# Altium schematic symbol library WE-VD.SchLib: 79 symbols (part 1 of 2)
Pins are listed as number, name and electrical type; pins without a type are passive.

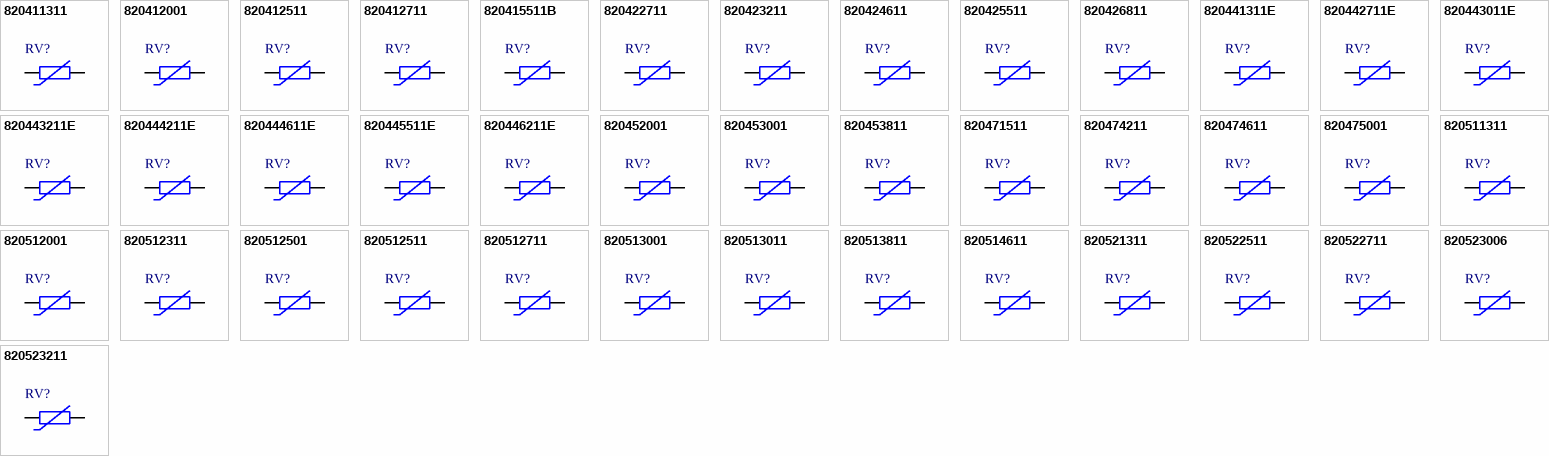
[diagram p0: symbols 820411311 to 820523211]

## 820411311
designator RV?, comment 130Vrms, 170Vdc  (value not drawn)
WE-VD Disk Varistor, THT, D12.5mm x H15.5mm, 130Vrms, 170Vdc, 3500A, 35J; Manufacturer Part Number: 820411311; Manufacturer: Wurth Elektronik; Operating Voltage (AC): 130V; Operating Voltage (DC): 170V; Power Dissipation: 0.4W; (Reverse) Breakdown Voltage: 200V; VDE Approval: Yes; Category: Surge Protection; Match Code: WE-VD; ComponentLink1Description: Website Link; ComponentLink1URL: https://www.we-online.com/redexpert/article/820411311?ad; ComponentLink2Description: Datasheet Link; ComponentLink2URL: https://www.we-online.com/redexpert/spec/820411311?ad; Mount: Through Hole; Operating Temperature Min: -40degC; Operating Temperature Max: 105degC; Packaging: Tape and Reel; Width: 4.6mm; Height: 15.5mm; Diameter: 12.5mm; Energy Absorption: 35J; (Reverse) Peak Pulse Current: 3500A
footprint D12.5W4.6H15.5P0.8_ShortPin
footprint D12.5W4.6H15.5P0.8
pins: 1, 2

## 820412001
designator RV?, comment 20Vrms, 26Vdc  (value not drawn)
WE-VD Disk Varistor, THT, D12.5mm x H15.5mm, 20Vrms, 26Vdc, 1000A, 4.8J; Manufacturer Part Number: 820412001; Manufacturer: Wurth Elektronik; Operating Voltage (AC): 20V; Operating Voltage (DC): 26V; Power Dissipation: 0.05W; (Reverse) Breakdown Voltage: 33V; VDE Approval: Yes; Category: Surge Protection; Match Code: WE-VD; ComponentLink1Description: Website Link; ComponentLink1URL: https://www.we-online.com/redexpert/article/820412001?ad; ComponentLink2Description: Datasheet Link; ComponentLink2URL: https://www.we-online.com/redexpert/spec/820412001?ad; Mount: Through Hole; Operating Temperature Min: -40degC; Operating Temperature Max: 105degC; Packaging: Tape and Reel; Width: 5.1mm; Height: 15.5mm; Diameter: 12.5mm; Energy Absorption: 4.8J; (Reverse) Peak Pulse Current: 1000A
footprint D12.5W5.1H15.5P0.8_ShortPin
footprint D12.5W5.1H15.5P0.8
pins: 1, 2

## 820412511
designator RV?, comment 250Vrms, 320Vdc  (value not drawn)
WE-VD Disk Varistor, THT, D12.5mm x H16mm, 250Vrms, 320Vdc, 3500A, 70J; Manufacturer Part Number: 820412511; Manufacturer: Wurth Elektronik; Operating Voltage (AC): 250V; Operating Voltage (DC): 320V; Power Dissipation: 0.4W; (Reverse) Breakdown Voltage: 390V; VDE Approval: Yes; Category: Surge Protection; Match Code: WE-VD; ComponentLink1Description: Website Link; ComponentLink1URL: https://www.we-online.com/redexpert/article/820412511?ad; ComponentLink2Description: Datasheet Link; ComponentLink2URL: https://www.we-online.com/redexpert/spec/820412511?ad; Mount: Through Hole; Operating Temperature Min: -40degC; Operating Temperature Max: 105degC; Packaging: Tape and Reel; Width: 5.7mm; Height: 16mm; Diameter: 12.5mm; Energy Absorption: 70J; (Reverse) Peak Pulse Current: 3500A
footprint D12.5W5.7H16P1.1_ShortPin
footprint D12.5W5.7H16P1.1
pins: 1, 2

## 820412711
designator RV?, comment 275Vrms, 350Vdc  (value not drawn)
WE-VD Disk Varistor, THT, D12.5mm x H16mm, 275Vrms, 350Vdc, 3500A, 80J; Manufacturer Part Number: 820412711; Manufacturer: Wurth Elektronik; Operating Voltage (AC): 275V; Operating Voltage (DC): 350V; Power Dissipation: 0.4W; (Reverse) Breakdown Voltage: 430V; VDE Approval: Yes; Category: Surge Protection; Match Code: WE-VD; ComponentLink1Description: Website Link; ComponentLink1URL: https://www.we-online.com/redexpert/article/820412711?ad; ComponentLink2Description: Datasheet Link; ComponentLink2URL: https://www.we-online.com/redexpert/spec/820412711?ad; Mount: Through Hole; Operating Temperature Min: -40degC; Operating Temperature Max: 105degC; Packaging: Tape and Reel; Width: 6.5mm; Height: 16mm; Diameter: 12.5mm; Energy Absorption: 80J; (Reverse) Peak Pulse Current: 3500A
footprint D12.5W6.5H16P1.3_ShortPin
footprint D12.5W6.5H16P1.3
pins: 1, 2

## 820415511B
designator RV?, comment 550Vrms, 745Vdc  (value not drawn)
WE-VD Disk Varistor, THT, D12.5mm x H16.5mm, 550Vrms, 745Vdc, 3500A, 127J; Manufacturer Part Number: 820415511B; Manufacturer: Wurth Elektronik; Operating Voltage (AC): 550V; Operating Voltage (DC): 745V; Power Dissipation: 0.4W; (Reverse) Breakdown Voltage: 910V; VDE Approval: Yes; Category: Surge Protection; Match Code: WE-VD; ComponentLink1Description: Website Link; ComponentLink1URL: https://www.we-online.com/redexpert/article/820415511B?ad; ComponentLink2Description: Datasheet Link; ComponentLink2URL: https://www.we-online.com/redexpert/spec/820415511B?ad; Mount: Through Hole; Operating Temperature Min: -40degC; Operating Temperature Max: 105degC; Packaging: Tape and Reel; Width: 9.4mm; Height: 16.5mm; Diameter: 12.5mm; Energy Absorption: 127J; (Reverse) Peak Pulse Current: 3500A
footprint D12.5W9.4H16.5P3.6_ShortPin
footprint D12.5W9.4H16.5P3.6
pins: 1, 2

## 820422711
designator RV?, comment 275Vrms, 350Vdc  (value not drawn)
WE-VD Disk Varistor, THT, D23mm x H26.5mm, 275Vrms, 350Vdc, 10000A, 303J; Manufacturer Part Number: 820422711; Manufacturer: Wurth Elektronik; Operating Voltage (AC): 275V; Operating Voltage (DC): 350V; Power Dissipation: 1W; (Reverse) Breakdown Voltage: 430V; VDE Approval: Yes; Category: Surge Protection; Match Code: WE-VD; ComponentLink1Description: Website Link; ComponentLink1URL: https://www.we-online.com/redexpert/article/820422711?ad; ComponentLink2Description: Datasheet Link; ComponentLink2URL: https://www.we-online.com/redexpert/spec/820422711?ad; Mount: Through Hole; Operating Temperature Min: -40degC; Operating Temperature Max: 105degC; Packaging: Tape and Reel; Width: 7.2mm; Height: 26.5mm; Diameter: 23mm; Energy Absorption: 303J; (Reverse) Peak Pulse Current: 10000A
footprint D23W7.2H26.5P1.1_ShortPin
footprint D23W7.2H26.5P1.1
pins: 1, 2

## 820423211
designator RV?, comment 320Vrms, 418Vdc  (value not drawn)
WE-VD Disk Varistor, THT, D23mm x H27mm, 320Vrms, 418Vdc, 10000A, 382J; Manufacturer Part Number: 820423211; Manufacturer: Wurth Elektronik; Operating Voltage (AC): 320V; Operating Voltage (DC): 418V; Power Dissipation: 1W; (Reverse) Breakdown Voltage: 510V; VDE Approval: Yes; Category: Surge Protection; Match Code: WE-VD; ComponentLink1Description: Website Link; ComponentLink1URL: https://www.we-online.com/redexpert/article/820423211?ad; ComponentLink2Description: Datasheet Link; ComponentLink2URL: https://www.we-online.com/redexpert/spec/820423211?ad; Mount: Through Hole; Operating Temperature Min: -40degC; Operating Temperature Max: 105degC; Packaging: Tape and Reel; Width: 7.7mm; Height: 27mm; Diameter: 23mm; Energy Absorption: 382J; (Reverse) Peak Pulse Current: 10000A
footprint D23W7.7H27P1.5_ShortPin
footprint D23W7.7H27P1.5
pins: 1, 2

## 820424611
designator RV?, comment 460Vrms, 615Vdc  (value not drawn)
WE-VD Disk Varistor, THT, D23mm x H27mm, 460Vrms, 615Vdc, 10000A, 440J; Manufacturer Part Number: 820424611; Manufacturer: Wurth Elektronik; Operating Voltage (AC): 460V; Operating Voltage (DC): 615V; Power Dissipation: 1W; (Reverse) Breakdown Voltage: 750V; VDE Approval: Yes; Category: Surge Protection; Match Code: WE-VD; ComponentLink1Description: Website Link; ComponentLink1URL: https://www.we-online.com/redexpert/article/820424611?ad; ComponentLink2Description: Datasheet Link; ComponentLink2URL: https://www.we-online.com/redexpert/spec/820424611?ad; Mount: Through Hole; Operating Temperature Min: -40degC; Operating Temperature Max: 105degC; Packaging: Bag; Width: 9.1mm; Height: 27mm; Diameter: 23mm; Energy Absorption: 440J; (Reverse) Peak Pulse Current: 10000A
footprint D23W9.1H27P2.6_ShortPin
footprint D23W9.1H27P2.6
pins: 1, 2

## 820425511
designator RV?, comment 550Vrms, 745Vdc  (value not drawn)
WE-VD Disk Varistor, THT, D23mm x H27mm, 550Vrms, 745Vdc, 10000A, 510J; Manufacturer Part Number: 820425511; Manufacturer: Wurth Elektronik; Operating Voltage (AC): 550V; Operating Voltage (DC): 745V; Power Dissipation: 1W; (Reverse) Breakdown Voltage: 910V; VDE Approval: Yes; Category: Surge Protection; Match Code: WE-VD; ComponentLink1Description: Website Link; ComponentLink1URL: https://www.we-online.com/redexpert/article/820425511?ad; ComponentLink2Description: Datasheet Link; ComponentLink2URL: https://www.we-online.com/redexpert/spec/820425511?ad; Mount: Through Hole; Operating Temperature Min: -40degC; Operating Temperature Max: 105degC; Packaging: Tape and Reel; Width: 10.1mm; Height: 27mm; Diameter: 23mm; Energy Absorption: 510J; (Reverse) Peak Pulse Current: 10000A
footprint D23W10.1H27P3.4_ShortPin
footprint D23W10.1H27P3.4
pins: 1, 2

## 820426811
designator RV?, comment 680Vrms, 895Vdc  (value not drawn)
WE-VD Disk Varistor, THT, D23mm x H27mm, 680Vrms, 895Vdc, 10000A, 620J; Manufacturer Part Number: 820426811; Manufacturer: Wurth Elektronik; Operating Voltage (AC): 680V; Operating Voltage (DC): 895V; Power Dissipation: 1W; (Reverse) Breakdown Voltage: 1100V; VDE Approval: Yes; Category: Surge Protection; Match Code: WE-VD; ComponentLink1Description: Website Link; ComponentLink1URL: https://www.we-online.com/redexpert/article/820426811?ad; ComponentLink2Description: Datasheet Link; ComponentLink2URL: https://www.we-online.com/redexpert/spec/820426811?ad; Mount: Through Hole; Operating Temperature Min: -40degC; Operating Temperature Max: 105degC; Packaging: Tape and Reel; Width: 11.2mm; Height: 27mm; Diameter: 23mm; Energy Absorption: 620J; (Reverse) Peak Pulse Current: 10000A
footprint D23W11.2H27P4.3_ShortPin
footprint D23W11.2H27P4.3
pins: 1, 2

## 820441311E
designator RV?, comment 130Vrms, 170Vdc  (value not drawn)
WE-VD Disk Varistor, THT, D16.5mm x H19.5mm, 130Vrms, 170Vdc, 6000A, 70J; Manufacturer Part Number: 820441311E; Manufacturer: Wurth Elektronik; Operating Voltage (AC): 130V; Operating Voltage (DC): 170V; Power Dissipation: 0.6W; (Reverse) Breakdown Voltage: 200V; VDE Approval: Yes; Category: Surge Protection; Match Code: WE-VD; ComponentLink1Description: Website Link; ComponentLink1URL: https://www.we-online.com/redexpert/article/820441311E?ad; ComponentLink2Description: Datasheet Link; ComponentLink2URL: https://www.we-online.com/redexpert/spec/820441311E?ad; Mount: Through Hole; Operating Temperature Min: -40degC; Operating Temperature Max: 105degC; Packaging: Tape and Reel; Width: 4.8mm; Height: 19.5mm; Diameter: 16.5mm; Energy Absorption: 70J; (Reverse) Peak Pulse Current: 6000A
footprint D16.5W4.8H19.5P0.8_ShortPin
footprint D16.5W4.8H19.5P0.8
pins: 1, 2

## 820442711E
designator RV?, comment 275Vrms, 350Vdc  (value not drawn)
WE-VD Disk Varistor, THT, D16.5mm x H20mm, 275Vrms, 350Vdc, 6000A, 155J; Manufacturer Part Number: 820442711E; Manufacturer: Wurth Elektronik; Operating Voltage (AC): 275V; Operating Voltage (DC): 350V; Power Dissipation: 0.6W; (Reverse) Breakdown Voltage: 430V; VDE Approval: Yes; Category: Surge Protection; Match Code: WE-VD; ComponentLink1Description: Website Link; ComponentLink1URL: https://www.we-online.com/redexpert/article/820442711E?ad; ComponentLink2Description: Datasheet Link; ComponentLink2URL: https://www.we-online.com/redexpert/spec/820442711E?ad; Mount: Through Hole; Operating Temperature Min: -40degC; Operating Temperature Max: 105degC; Packaging: Tape and Reel; Width: 6.7mm; Height: 20mm; Diameter: 16.5mm; Energy Absorption: 155J; (Reverse) Peak Pulse Current: 6000A
footprint D16.5W6.7H20P1.3_ShortPin
footprint D16.5W6.7H20P1.3
pins: 1, 2

## 820443011E
designator RV?, comment 300Vrms, 385Vdc  (value not drawn)
WE-VD Disk Varistor, THT, D16.5mm x H20mm, 300Vrms, 385Vdc, 6000A, 175J; Manufacturer Part Number: 820443011E; Manufacturer: Wurth Elektronik; Operating Voltage (AC): 300V; Operating Voltage (DC): 385V; Power Dissipation: 0.6W; (Reverse) Breakdown Voltage: 470V; VDE Approval: Yes; Category: Surge Protection; Match Code: WE-VD; ComponentLink1Description: Website Link; ComponentLink1URL: https://www.we-online.com/redexpert/article/820443011E?ad; ComponentLink2Description: Datasheet Link; ComponentLink2URL: https://www.we-online.com/redexpert/spec/820443011E?ad; Mount: Through Hole; Operating Temperature Min: -40degC; Operating Temperature Max: 105degC; Packaging: Tape and Reel; Width: 7mm; Height: 20mm; Diameter: 16.5mm; Energy Absorption: 175J; (Reverse) Peak Pulse Current: 6000A
footprint D16.5W7H20P1.5_ShortPin
footprint D16.5W7H20P1.5
pins: 1, 2

## 820443211E
designator RV?, comment 320Vrms, 418Vdc  (value not drawn)
WE-VD Disk Varistor, THT, D16.5mm x H20.5mm, 320Vrms, 418Vdc, 6000A, 190J; Manufacturer Part Number: 820443211E; Manufacturer: Wurth Elektronik; Operating Voltage (AC): 320V; Operating Voltage (DC): 418V; Power Dissipation: 0.6W; (Reverse) Breakdown Voltage: 510V; VDE Approval: Yes; Category: Surge Protection; Match Code: WE-VD; ComponentLink1Description: Website Link; ComponentLink1URL: https://www.we-online.com/redexpert/article/820443211E?ad; ComponentLink2Description: Datasheet Link; ComponentLink2URL: https://www.we-online.com/redexpert/spec/820443211E?ad; Mount: Through Hole; Operating Temperature Min: -40degC; Operating Temperature Max: 105degC; Packaging: Tape and Reel; Width: 7.2mm; Height: 20.5mm; Diameter: 16.5mm; Energy Absorption: 190J; (Reverse) Peak Pulse Current: 6000A
footprint D16.5W7.2H20.5P1.6_ShortPin
footprint D16.5W7.2H20.5P1.6
pins: 1, 2

## 820444211E
designator RV?, comment 420Vrms, 560Vdc  (value not drawn)
WE-VD Disk Varistor, THT, D16.5mm x H20.5mm, 420Vrms, 560Vdc, 6000A, 225J; Manufacturer Part Number: 820444211E; Manufacturer: Wurth Elektronik; Operating Voltage (AC): 420V; Operating Voltage (DC): 560V; Power Dissipation: 0.6W; (Reverse) Breakdown Voltage: 680V; VDE Approval: Yes; Category: Surge Protection; Match Code: WE-VD; ComponentLink1Description: Website Link; ComponentLink1URL: https://www.we-online.com/redexpert/article/820444211E?ad; ComponentLink2Description: Datasheet Link; ComponentLink2URL: https://www.we-online.com/redexpert/spec/820444211E?ad; Mount: Through Hole; Operating Temperature Min: -40degC; Operating Temperature Max: 105degC; Packaging: Tape and Reel; Width: 8.2mm; Height: 20.5mm; Diameter: 16.5mm; Energy Absorption: 225J; (Reverse) Peak Pulse Current: 6000A
footprint D16.5W8.2H20.5P2.5_ShortPin
footprint D16.5W8.2H20.5P2.5
pins: 1, 2

## 820444611E
designator RV?, comment 460Vrms, 615Vdc  (value not drawn)
WE-VD Disk Varistor, THT, D16.5mm x H20.5mm, 460Vrms, 615Vdc, 6000A, 230J; Manufacturer Part Number: 820444611E; Manufacturer: Wurth Elektronik; Operating Voltage (AC): 460V; Operating Voltage (DC): 615V; Power Dissipation: 0.6W; (Reverse) Breakdown Voltage: 750V; VDE Approval: Yes; Category: Surge Protection; Match Code: WE-VD; ComponentLink1Description: Website Link; ComponentLink1URL: https://www.we-online.com/redexpert/article/820444611E?ad; ComponentLink2Description: Datasheet Link; ComponentLink2URL: https://www.we-online.com/redexpert/spec/820444611E?ad; Mount: Through Hole; Operating Temperature Min: -40degC; Operating Temperature Max: 105degC; Packaging: Tape and Reel; Width: 8.6mm; Height: 20.5mm; Diameter: 16.5mm; Energy Absorption: 230J; (Reverse) Peak Pulse Current: 6000A
footprint D16.5W8.6H20.5P2.8_ShortPin
footprint D16.5W8.6H20.5P2.8
pins: 1, 2

## 820445511E
designator RV?, comment 550Vrms, 745Vdc  (value not drawn)
WE-VD Disk Varistor, THT, D16.5mm x H20.5mm, 550Vrms, 745Vdc, 6000A, 255J; Manufacturer Part Number: 820445511E; Manufacturer: Wurth Elektronik; Operating Voltage (AC): 550V; Operating Voltage (DC): 745V; Power Dissipation: 0.6W; (Reverse) Breakdown Voltage: 910V; VDE Approval: Yes; Category: Surge Protection; Match Code: WE-VD; ComponentLink1Description: Website Link; ComponentLink1URL: https://www.we-online.com/redexpert/article/820445511E?ad; ComponentLink2Description: Datasheet Link; ComponentLink2URL: https://www.we-online.com/redexpert/spec/820445511E?ad; Mount: Through Hole; Operating Temperature Min: -40degC; Operating Temperature Max: 105degC; Packaging: Tape and Reel; Width: 9.6mm; Height: 20.5mm; Diameter: 16.5mm; Energy Absorption: 255J; (Reverse) Peak Pulse Current: 6000A
footprint D16.5W9.6H20.5P3.6_ShortPin
footprint D16.5W9.6H20.5P3.6
pins: 1, 2

## 820446211E
designator RV?, comment 625Vrms, 825Vdc  (value not drawn)
WE-VD Disk Varistor, THT, D16.5mm x H20.5mm, 625Vrms, 825Vdc, 6000A, 283J; Manufacturer Part Number: 820446211E; Manufacturer: Wurth Elektronik; Operating Voltage (AC): 625V; Operating Voltage (DC): 825V; Power Dissipation: 0.6W; (Reverse) Breakdown Voltage: 1000V; VDE Approval: Yes; Category: Surge Protection; Match Code: WE-VD; ComponentLink1Description: Website Link; ComponentLink1URL: https://www.we-online.com/redexpert/article/820446211E?ad; ComponentLink2Description: Datasheet Link; ComponentLink2URL: https://www.we-online.com/redexpert/spec/820446211E?ad; Mount: Through Hole; Operating Temperature Min: -40degC; Operating Temperature Max: 105degC; Packaging: Tape and Reel; Width: 10.1mm; Height: 20.5mm; Diameter: 16.5mm; Energy Absorption: 283J; (Reverse) Peak Pulse Current: 6000A
footprint D16.5W10.1H20.5P4_ShortPin
footprint D16.5W10.1H20.5P4
pins: 1, 2

## 820452001
designator RV?, comment 20Vrms, 26Vdc  (value not drawn)
WE-VD Disk Varistor, THT, D7.5mm x H10.5mm, 20Vrms, 26Vdc, 250A, 1.3J; Manufacturer Part Number: 820452001; Manufacturer: Wurth Elektronik; Operating Voltage (AC): 20V; Operating Voltage (DC): 26V; Power Dissipation: 0.01W; (Reverse) Breakdown Voltage: 33V; VDE Approval: Yes; Category: Surge Protection; Match Code: WE-VD; ComponentLink1Description: Website Link; ComponentLink1URL: https://www.we-online.com/redexpert/article/820452001?ad; ComponentLink2Description: Datasheet Link; ComponentLink2URL: https://www.we-online.com/redexpert/spec/820452001?ad; Mount: Through Hole; Operating Temperature Min: -40degC; Operating Temperature Max: 105degC; Packaging: Tape and Reel; Width: 4.7mm; Height: 10.5mm; Diameter: 7.5mm; Energy Absorption: 1.3J; (Reverse) Peak Pulse Current: 250A
footprint D7.5W4.7H10.5P0.8_ShortPin
footprint D7.5W4.7H10.5P0.8
pins: 1, 2

## 820453001
designator RV?, comment 30Vrms, 38Vdc  (value not drawn)
WE-VD Disk Varistor, THT, D7.5mm x H10.5mm, 30Vrms, 38Vdc, 250A, 1.8J; Manufacturer Part Number: 820453001; Manufacturer: Wurth Elektronik; Operating Voltage (AC): 30V; Operating Voltage (DC): 38V; Power Dissipation: 0.01W; (Reverse) Breakdown Voltage: 47V; VDE Approval: Yes; Category: Surge Protection; Match Code: WE-VD; ComponentLink1Description: Website Link; ComponentLink1URL: https://www.we-online.com/redexpert/article/820453001?ad; ComponentLink2Description: Datasheet Link; ComponentLink2URL: https://www.we-online.com/redexpert/spec/820453001?ad; Mount: Through Hole; Operating Temperature Min: -40degC; Operating Temperature Max: 105degC; Packaging: Tape and Reel; Width: 5mm; Height: 10.5mm; Diameter: 7.5mm; Energy Absorption: 1.8J; (Reverse) Peak Pulse Current: 250A
footprint D7.5W5H10.5P0.8_ShortPin
footprint D7.5W5H10.5P0.8
pins: 1, 2

## 820453811
designator RV?, comment 385Vrms, 505Vdc  (value not drawn)
WE-VD Disk Varistor, THT, D7.5mm x H11.5mm, 385Vrms, 505Vdc, 800A, 27J; Manufacturer Part Number: 820453811; Manufacturer: Wurth Elektronik; Operating Voltage (AC): 385V; Operating Voltage (DC): 505V; Power Dissipation: 0.1W; (Reverse) Breakdown Voltage: 620V; VDE Approval: Yes; Category: Surge Protection; Match Code: WE-VD; ComponentLink1Description: Website Link; ComponentLink1URL: https://www.we-online.com/redexpert/article/820453811?ad; ComponentLink2Description: Datasheet Link; ComponentLink2URL: https://www.we-online.com/redexpert/spec/820453811?ad; Mount: Through Hole; Operating Temperature Min: -40degC; Operating Temperature Max: 105degC; Packaging: Tape and Reel; Width: 7.2mm; Height: 11.5mm; Diameter: 7.5mm; Energy Absorption: 27J; (Reverse) Peak Pulse Current: 800A
footprint D7.5W7.2H11.5P2.4_ShortPin
footprint D7.5W7.2H11.5P2.4
pins: 1, 2

## 820471511
designator RV?, comment 150Vrms, 200Vdc  (value not drawn)
WE-VD Disk Varistor, THT, D9mm x H12mm, 150Vrms, 200Vdc, 1750A, 21J; Manufacturer Part Number: 820471511; Manufacturer: Wurth Elektronik; Operating Voltage (AC): 150V; Operating Voltage (DC): 200V; Power Dissipation: 0.25W; (Reverse) Breakdown Voltage: 240V; VDE Approval: Yes; Category: Surge Protection; Match Code: WE-VD; ComponentLink1Description: Website Link; ComponentLink1URL: https://www.we-online.com/redexpert/article/820471511?ad; ComponentLink2Description: Datasheet Link; ComponentLink2URL: https://www.we-online.com/redexpert/spec/820471511?ad; Mount: Through Hole; Operating Temperature Min: -40degC; Operating Temperature Max: 105degC; Packaging: Tape and Reel; Width: 4.4mm; Height: 12mm; Diameter: 9mm; Energy Absorption: 21J; (Reverse) Peak Pulse Current: 1750A
footprint D9W4.4H12P0.8_ShortPin
footprint D9W4.4H12P0.8
pins: 1, 2

## 820474211
designator RV?, comment 420Vrms, 560Vdc  (value not drawn)
WE-VD Disk Varistor, THT, D9mm x H13mm, 420Vrms, 560Vdc, 1750A, 56J; Manufacturer Part Number: 820474211; Manufacturer: Wurth Elektronik; Operating Voltage (AC): 420V; Operating Voltage (DC): 560V; Power Dissipation: 0.25W; (Reverse) Breakdown Voltage: 680V; VDE Approval: Yes; Category: Surge Protection; Match Code: WE-VD; ComponentLink1Description: Website Link; ComponentLink1URL: https://www.we-online.com/redexpert/article/820474211?ad; ComponentLink2Description: Datasheet Link; ComponentLink2URL: https://www.we-online.com/redexpert/spec/820474211?ad; Mount: Through Hole; Operating Temperature Min: -40degC; Operating Temperature Max: 105degC; Packaging: Tape and Reel; Width: 7.5mm; Height: 13mm; Diameter: 9mm; Energy Absorption: 56J; (Reverse) Peak Pulse Current: 1750A
footprint D9W7.5H13P2.7_ShortPin
footprint D9W7.5H13P2.7
pins: 1, 2

## 820474611
designator RV?, comment 460Vrms, 615Vdc  (value not drawn)
WE-VD Disk Varistor, THT, D9mm x H13mm, 460Vrms, 615Vdc, 1750A, 58J; Manufacturer Part Number: 820474611; Manufacturer: Wurth Elektronik; Operating Voltage (AC): 460V; Operating Voltage (DC): 615V; Power Dissipation: 0.25W; (Reverse) Breakdown Voltage: 750V; VDE Approval: Yes; Category: Surge Protection; Match Code: WE-VD; ComponentLink1Description: Website Link; ComponentLink1URL: https://www.we-online.com/redexpert/article/820474611?ad; ComponentLink2Description: Datasheet Link; ComponentLink2URL: https://www.we-online.com/redexpert/spec/820474611?ad; Mount: Through Hole; Operating Temperature Min: -40degC; Operating Temperature Max: 105degC; Packaging: Tape and Reel; Width: 7.9mm; Height: 13mm; Diameter: 9mm; Energy Absorption: 58J; (Reverse) Peak Pulse Current: 1750A
footprint D9W7.9H13P3_ShortPin
footprint D9W7.9H13P3
pins: 1, 2

## 820475001
designator RV?, comment 50Vrms, 65Vdc  (value not drawn)
WE-VD Disk Varistor, THT, D9mm x H12mm, 50Vrms, 65Vdc, 1750A, 7J; Manufacturer Part Number: 820475001; Manufacturer: Wurth Elektronik; Operating Voltage (AC): 50V; Operating Voltage (DC): 65V; Power Dissipation: 0.25W; (Reverse) Breakdown Voltage: 82V; VDE Approval: Yes; Category: Surge Protection; Match Code: WE-VD; ComponentLink1Description: Website Link; ComponentLink1URL: https://www.we-online.com/redexpert/article/820475001?ad; ComponentLink2Description: Datasheet Link; ComponentLink2URL: https://www.we-online.com/redexpert/spec/820475001?ad; Mount: Through Hole; Operating Temperature Min: -40degC; Operating Temperature Max: 105degC; Packaging: Tape and Reel; Width: 3.8mm; Height: 12mm; Diameter: 9mm; Energy Absorption: 7J; (Reverse) Peak Pulse Current: 1750A
footprint D9W3.8H12P0.8_ShortPin
footprint D9W3.8H12P0.8
pins: 1, 2

## 820511311
designator RV?, comment 130Vrms, 170Vdc  (value not drawn)
WE-VD Disk Varistor, THT, D12.5mm x H15.5mm, 130Vrms, 170Vdc, 2500A, 28.5J; Manufacturer Part Number: 820511311; Manufacturer: Wurth Elektronik; Operating Voltage (AC): 130V; Operating Voltage (DC): 170V; Power Dissipation: 0.4W; (Reverse) Breakdown Voltage: 200V; VDE Approval: Yes; Category: Surge Protection; Match Code: WE-VD; ComponentLink1Description: Website Link; ComponentLink1URL: https://www.we-online.com/redexpert/article/820511311?ad; ComponentLink2Description: Datasheet Link; ComponentLink2URL: https://www.we-online.com/redexpert/spec/820511311?ad; Mount: Through Hole; Operating Temperature Min: -40degC; Operating Temperature Max: 105degC; Packaging: Tape and Reel; Width: 4.6mm; Height: 15.5mm; Diameter: 12.5mm; Energy Absorption: 28.5J; (Reverse) Peak Pulse Current: 2500A
footprint D12.5W4.6H15.5P0.8_ShortPin
footprint D12.5W4.6H15.5P0.8
pins: 1, 2

## 820512001
designator RV?, comment 20Vrms, 26Vdc  (value not drawn)
WE-VD Disk Varistor, THT, D12.5mm x H15.5mm, 20Vrms, 26Vdc, 500A, 4.4J; Manufacturer Part Number: 820512001; Manufacturer: Wurth Elektronik; Operating Voltage (AC): 20V; Operating Voltage (DC): 26V; Power Dissipation: 0.05W; (Reverse) Breakdown Voltage: 33V; VDE Approval: Yes; Category: Surge Protection; Match Code: WE-VD; ComponentLink1Description: Website Link; ComponentLink1URL: https://www.we-online.com/redexpert/article/820512001?ad; ComponentLink2Description: Datasheet Link; ComponentLink2URL: https://www.we-online.com/redexpert/spec/820512001?ad; Mount: Through Hole; Operating Temperature Min: -40degC; Operating Temperature Max: 105degC; Packaging: Tape and Reel; Width: 5.1mm; Height: 15.5mm; Diameter: 12.5mm; Energy Absorption: 4.4J; (Reverse) Peak Pulse Current: 500A
footprint D12.5W5.1H15.5P0.8_ShortPin
footprint D12.5W5.1H15.5P0.8
pins: 1, 2

## 820512311
designator RV?, comment 230Vrms, 300Vdc  (value not drawn)
WE-VD Disk Varistor, THT, D12.5mm x H15.5mm, 230Vrms, 300Vdc, 2500A, 52J; Manufacturer Part Number: 820512311; Manufacturer: Wurth Elektronik; Operating Voltage (AC): 230V; Operating Voltage (DC): 300V; Power Dissipation: 0.4W; (Reverse) Breakdown Voltage: 360V; VDE Approval: Yes; Category: Surge Protection; Match Code: WE-VD; ComponentLink1Description: Website Link; ComponentLink1URL: https://www.we-online.com/redexpert/article/820512311?ad; ComponentLink2Description: Datasheet Link; ComponentLink2URL: https://www.we-online.com/redexpert/spec/820512311?ad; Mount: Through Hole; Operating Temperature Min: -40degC; Operating Temperature Max: 105degC; Packaging: Tape and Reel; Width: 5.5mm; Height: 15.5mm; Diameter: 12.5mm; Energy Absorption: 52J; (Reverse) Peak Pulse Current: 2500A
footprint D12.5W5.5H15.5P0.9_ShortPin
footprint D12.5W5.5H15.5P0.9
pins: 1, 2

## 820512501
designator RV?, comment 25Vrms, 31Vdc  (value not drawn)
WE-VD Disk Varistor, THT, D12.5mm x H15.5mm, 25Vrms, 31Vdc, 500A, 4.7J; Manufacturer Part Number: 820512501; Manufacturer: Wurth Elektronik; Operating Voltage (AC): 25V; Operating Voltage (DC): 31V; Power Dissipation: 0.05W; (Reverse) Breakdown Voltage: 39V; VDE Approval: Yes; Category: Surge Protection; Match Code: WE-VD; ComponentLink1Description: Website Link; ComponentLink1URL: https://www.we-online.com/redexpert/article/820512501?ad; ComponentLink2Description: Datasheet Link; ComponentLink2URL: https://www.we-online.com/redexpert/spec/820512501?ad; Mount: Through Hole; Operating Temperature Min: -40degC; Operating Temperature Max: 105degC; Packaging: Tape and Reel; Width: 5.1mm; Height: 15.5mm; Diameter: 12.5mm; Energy Absorption: 4.7J; (Reverse) Peak Pulse Current: 500A
footprint D12.5W5.1H15.5P0.8_ShortPin
footprint D12.5W5.1H15.5P0.8
pins: 1, 2

## 820512511
designator RV?, comment 250Vrms, 320Vdc  (value not drawn)
WE-VD Disk Varistor, THT, D12.5mm x H16mm, 250Vrms, 320Vdc, 2500A, 60J; Manufacturer Part Number: 820512511; Manufacturer: Wurth Elektronik; Operating Voltage (AC): 250V; Operating Voltage (DC): 320V; Power Dissipation: 0.4W; (Reverse) Breakdown Voltage: 390V; VDE Approval: Yes; Category: Surge Protection; Match Code: WE-VD; ComponentLink1Description: Website Link; ComponentLink1URL: https://www.we-online.com/redexpert/article/820512511?ad; ComponentLink2Description: Datasheet Link; ComponentLink2URL: https://www.we-online.com/redexpert/spec/820512511?ad; Mount: Through Hole; Operating Temperature Min: -40degC; Operating Temperature Max: 105degC; Packaging: Tape and Reel; Width: 5.7mm; Height: 16mm; Diameter: 12.5mm; Energy Absorption: 60J; (Reverse) Peak Pulse Current: 2500A
footprint D12.5W5.7H16P1.1_ShortPin
footprint D12.5W5.7H16P1.1
pins: 1, 2

## 820512711
designator RV?, comment 275Vrms, 350Vdc  (value not drawn)
WE-VD Disk Varistor, THT, D12.5mm x H16mm, 275Vrms, 350Vdc, 2500A, 66J; Manufacturer Part Number: 820512711; Manufacturer: Wurth Elektronik; Operating Voltage (AC): 275V; Operating Voltage (DC): 350V; Power Dissipation: 0.4W; (Reverse) Breakdown Voltage: 430V; VDE Approval: Yes; Category: Surge Protection; Match Code: WE-VD; ComponentLink1Description: Website Link; ComponentLink1URL: https://www.we-online.com/redexpert/article/820512711?ad; ComponentLink2Description: Datasheet Link; ComponentLink2URL: https://www.we-online.com/redexpert/spec/820512711?ad; Mount: Through Hole; Operating Temperature Min: -40degC; Operating Temperature Max: 105degC; Packaging: Tape and Reel; Width: 6.5mm; Height: 16mm; Diameter: 12.5mm; Energy Absorption: 66J; (Reverse) Peak Pulse Current: 2500A
footprint D12.5W6.5H16P1.3_ShortPin
footprint D12.5W6.5H16P1.3
pins: 1, 2

## 820513001
designator RV?, comment 30Vrms, 38Vdc  (value not drawn)
WE-VD Disk Varistor, THT, D12.5mm x H15.5mm, 30Vrms, 38Vdc, 500A, 6J; Manufacturer Part Number: 820513001; Manufacturer: Wurth Elektronik; Operating Voltage (AC): 30V; Operating Voltage (DC): 38V; Power Dissipation: 0.05W; (Reverse) Breakdown Voltage: 47V; VDE Approval: Yes; Category: Surge Protection; Match Code: WE-VD; ComponentLink1Description: Website Link; ComponentLink1URL: https://www.we-online.com/redexpert/article/820513001?ad; ComponentLink2Description: Datasheet Link; ComponentLink2URL: https://www.we-online.com/redexpert/spec/820513001?ad; Mount: Through Hole; Operating Temperature Min: -40degC; Operating Temperature Max: 105degC; Packaging: Tape and Reel; Width: 5.5mm; Height: 15.5mm; Diameter: 12.5mm; Energy Absorption: 6J; (Reverse) Peak Pulse Current: 500A
footprint D12.5W5.5H15.5P0.8_ShortPin
footprint D12.5W5.5H15.5P0.8
pins: 1, 2

## 820513011
designator RV?, comment 300Vrms, 385Vdc  (value not drawn)
WE-VD Disk Varistor, THT, D12.5mm x H16mm, 300Vrms, 385Vdc, 2500A, 70J; Manufacturer Part Number: 820513011; Manufacturer: Wurth Elektronik; Operating Voltage (AC): 300V; Operating Voltage (DC): 385V; Power Dissipation: 0.4W; (Reverse) Breakdown Voltage: 470V; VDE Approval: Yes; Category: Surge Protection; Match Code: WE-VD; ComponentLink1Description: Website Link; ComponentLink1URL: https://www.we-online.com/redexpert/article/820513011?ad; ComponentLink2Description: Datasheet Link; ComponentLink2URL: https://www.we-online.com/redexpert/spec/820513011?ad; Mount: Through Hole; Operating Temperature Min: -40degC; Operating Temperature Max: 105degC; Packaging: Tape and Reel; Width: 6.8mm; Height: 16mm; Diameter: 12.5mm; Energy Absorption: 70J; (Reverse) Peak Pulse Current: 2500A
footprint D12.5W6.8H16P1.5_ShortPin
footprint D12.5W6.8H16P1.5
pins: 1, 2

## 820513811
designator RV?, comment 385Vrms, 505Vdc  (value not drawn)
WE-VD Disk Varistor, THT, D12.5mm x H16.5mm, 385Vrms, 505Vdc, 2500A, 82J; Manufacturer Part Number: 820513811; Manufacturer: Wurth Elektronik; Operating Voltage (AC): 385V; Operating Voltage (DC): 505V; Power Dissipation: 0.4W; (Reverse) Breakdown Voltage: 620V; VDE Approval: Yes; Category: Surge Protection; Match Code: WE-VD; ComponentLink1Description: Website Link; ComponentLink1URL: https://www.we-online.com/redexpert/article/820513811?ad; ComponentLink2Description: Datasheet Link; ComponentLink2URL: https://www.we-online.com/redexpert/spec/820513811?ad; Mount: Through Hole; Operating Temperature Min: -40degC; Operating Temperature Max: 105degC; Packaging: Tape and Reel; Width: 7.6mm; Height: 16.5mm; Diameter: 12.5mm; Energy Absorption: 82J; (Reverse) Peak Pulse Current: 2500A
footprint D12.5W7.6H16.5P2.2_ShortPin
footprint D12.5W7.6H16.5P2.2
pins: 1, 2

## 820514611
designator RV?, comment 460Vrms, 615Vdc  (value not drawn)
WE-VD Disk Varistor, THT, D12.5mm x H16.5mm, 460Vrms, 615Vdc, 2500A, 90J; Manufacturer Part Number: 820514611; Manufacturer: Wurth Elektronik; Operating Voltage (AC): 460V; Operating Voltage (DC): 615V; Power Dissipation: 0.4W; (Reverse) Breakdown Voltage: 750V; VDE Approval: Yes; Category: Surge Protection; Match Code: WE-VD; ComponentLink1Description: Website Link; ComponentLink1URL: https://www.we-online.com/redexpert/article/820514611?ad; ComponentLink2Description: Datasheet Link; ComponentLink2URL: https://www.we-online.com/redexpert/spec/820514611?ad; Mount: Through Hole; Operating Temperature Min: -40degC; Operating Temperature Max: 105degC; Packaging: Tape and Reel; Width: 8.4mm; Height: 16.5mm; Diameter: 12.5mm; Energy Absorption: 90J; (Reverse) Peak Pulse Current: 2500A
footprint D12.5W8.4H16.5P2.8_ShortPin
footprint D12.5W8.4H16.5P2.8
pins: 1, 2

## 820521311
designator RV?, comment 130Vrms, 170Vdc  (value not drawn)
WE-VD Disk Varistor, THT, D23mm x H26.5mm, 130Vrms, 170Vdc, 6500A, 114J; Manufacturer Part Number: 820521311; Manufacturer: Wurth Elektronik; Operating Voltage (AC): 130V; Operating Voltage (DC): 170V; Power Dissipation: 1W; (Reverse) Breakdown Voltage: 200V; VDE Approval: Yes; Category: Surge Protection; Match Code: WE-VD; ComponentLink1Description: Website Link; ComponentLink1URL: https://www.we-online.com/redexpert/article/820521311?ad; ComponentLink2Description: Datasheet Link; ComponentLink2URL: https://www.we-online.com/redexpert/spec/820521311?ad; Mount: Through Hole; Operating Temperature Min: -40degC; Operating Temperature Max: 105degC; Packaging: Tape and Reel; Width: 5.3mm; Height: 26.5mm; Diameter: 23mm; Energy Absorption: 114J; (Reverse) Peak Pulse Current: 6500A
footprint D23W5.3H26.5P0.8_ShortPin
footprint D23W5.3H26.5P0.8
pins: 1, 2

## 820522511
designator RV?, comment 250Vrms, 320Vdc  (value not drawn)
WE-VD Disk Varistor, THT, D23mm x H26.5mm, 250Vrms, 320Vdc, 6500A, 240J; Manufacturer Part Number: 820522511; Manufacturer: Wurth Elektronik; Operating Voltage (AC): 250V; Operating Voltage (DC): 320V; Power Dissipation: 1W; (Reverse) Breakdown Voltage: 390V; VDE Approval: Yes; Category: Surge Protection; Match Code: WE-VD; ComponentLink1Description: Website Link; ComponentLink1URL: https://www.we-online.com/redexpert/article/820522511?ad; ComponentLink2Description: Datasheet Link; ComponentLink2URL: https://www.we-online.com/redexpert/spec/820522511?ad; Mount: Through Hole; Operating Temperature Min: -40degC; Operating Temperature Max: 105degC; Packaging: Tape and Reel; Width: 6.4mm; Height: 26.5mm; Diameter: 23mm; Energy Absorption: 240J; (Reverse) Peak Pulse Current: 6500A
footprint D23W6.4H26.5P0.9_ShortPin
footprint D23W6.4H26.5P0.9
pins: 1, 2

## 820522711
designator RV?, comment 275Vrms, 350Vdc  (value not drawn)
WE-VD Disk Varistor, THT, D23mm x H26.5mm, 275Vrms, 350Vdc, 6500A, 264J; Manufacturer Part Number: 820522711; Manufacturer: Wurth Elektronik; Operating Voltage (AC): 275V; Operating Voltage (DC): 350V; Power Dissipation: 1W; (Reverse) Breakdown Voltage: 430V; VDE Approval: Yes; Category: Surge Protection; Match Code: WE-VD; ComponentLink1Description: Website Link; ComponentLink1URL: https://www.we-online.com/redexpert/article/820522711?ad; ComponentLink2Description: Datasheet Link; ComponentLink2URL: https://www.we-online.com/redexpert/spec/820522711?ad; Mount: Through Hole; Operating Temperature Min: -40degC; Operating Temperature Max: 105degC; Packaging: Tape and Reel; Width: 7.2mm; Height: 26.5mm; Diameter: 23mm; Energy Absorption: 264J; (Reverse) Peak Pulse Current: 6500A
footprint D23W7.2H26.5P1.1_ShortPin
footprint D23W7.2H26.5P1.1
pins: 1, 2

## 820523006
designator RV?, comment 30Vrms, 38Vdc  (value not drawn)
WE-VD Disk Varistor, THT, D23mm x H26.5mm, 30Vrms, 38Vdc, 2000A, 17J; Manufacturer Part Number: 820523006; Manufacturer: Wurth Elektronik; Operating Voltage (AC): 30V; Operating Voltage (DC): 38V; Power Dissipation: 0.2W; (Reverse) Breakdown Voltage: 47V; VDE Approval: Yes; Category: Surge Protection; Match Code: WE-VD; ComponentLink1Description: Website Link; ComponentLink1URL: https://www.we-online.com/redexpert/article/820523006?ad; ComponentLink2Description: Datasheet Link; ComponentLink2URL: https://www.we-online.com/redexpert/spec/820523006?ad; Mount: Through Hole; Operating Temperature Min: -40degC; Operating Temperature Max: 105degC; Packaging: Tape and Reel; Width: 5.6mm; Height: 26.5mm; Diameter: 23mm; Energy Absorption: 17J; (Reverse) Peak Pulse Current: 2000A
footprint D23W5.6H26.5P0.8_ShortPin
footprint D23W5.6H26.5P0.8
pins: 1, 2

## 820523211
designator RV?, comment 320Vrms, 418Vdc  (value not drawn)
WE-VD Disk Varistor, THT, D23mm x H27mm, 320Vrms, 418Vdc, 6500A, 296J; Manufacturer Part Number: 820523211; Manufacturer: Wurth Elektronik; Operating Voltage (AC): 320V; Operating Voltage (DC): 418V; Power Dissipation: 1W; (Reverse) Breakdown Voltage: 510V; VDE Approval: Yes; Category: Surge Protection; Match Code: WE-VD; ComponentLink1Description: Website Link; ComponentLink1URL: https://www.we-online.com/redexpert/article/820523211?ad; ComponentLink2Description: Datasheet Link; ComponentLink2URL: https://www.we-online.com/redexpert/spec/820523211?ad; Mount: Through Hole; Operating Temperature Min: -40degC; Operating Temperature Max: 105degC; Packaging: Tape and Reel; Width: 7.7mm; Height: 27mm; Diameter: 23mm; Energy Absorption: 296J; (Reverse) Peak Pulse Current: 6500A
footprint D23W7.7H27P1.5_ShortPin
footprint D23W7.7H27P1.5
pins: 1, 2

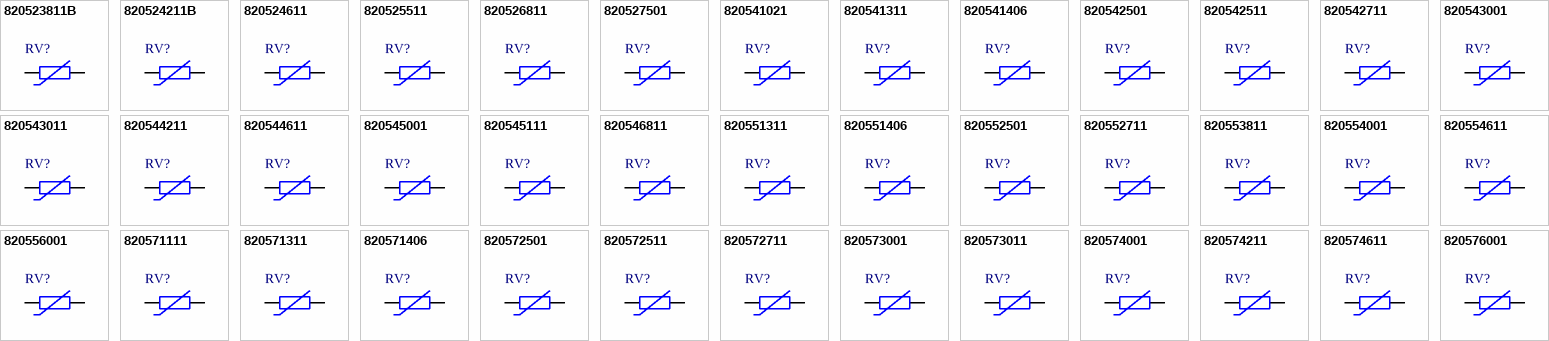
[diagram p1: symbols 820523811B to 820576001]

## 820523811B
designator RV?, comment 385Vrms, 505Vdc  (value not drawn)
WE-VD Disk Varistor, THT, D23mm x H27mm, 385Vrms, 505Vdc, 6500A, 328J; Manufacturer Part Number: 820523811B; Manufacturer: Wurth Elektronik; Operating Voltage (AC): 385V; Operating Voltage (DC): 505V; Power Dissipation: 1W; (Reverse) Breakdown Voltage: 620V; VDE Approval: Yes; Category: Surge Protection; Match Code: WE-VD; ComponentLink1Description: Website Link; ComponentLink1URL: https://www.we-online.com/redexpert/article/820523811B?ad; ComponentLink2Description: Datasheet Link; ComponentLink2URL: https://www.we-online.com/redexpert/spec/820523811B?ad; Mount: Through Hole; Operating Temperature Min: -40degC; Operating Temperature Max: 105degC; Packaging: Tape and Reel; Width: 8.3mm; Height: 27mm; Diameter: 23mm; Energy Absorption: 328J; (Reverse) Peak Pulse Current: 6500A
footprint D23W8.3H27P2_ShortPin
footprint D23W8.3H27P2
pins: 1, 2

## 820524211B
designator RV?, comment 420Vrms, 560Vdc  (value not drawn)
WE-VD Disk Varistor, THT, D23mm x H27mm, 420Vrms, 560Vdc, 6500A, 344J; Manufacturer Part Number: 820524211B; Manufacturer: Wurth Elektronik; Operating Voltage (AC): 420V; Operating Voltage (DC): 560V; Power Dissipation: 1W; (Reverse) Breakdown Voltage: 680V; VDE Approval: Yes; Category: Surge Protection; Match Code: WE-VD; ComponentLink1Description: Website Link; ComponentLink1URL: https://www.we-online.com/redexpert/article/820524211B?ad; ComponentLink2Description: Datasheet Link; ComponentLink2URL: https://www.we-online.com/redexpert/spec/820524211B?ad; Mount: Through Hole; Operating Temperature Min: -40degC; Operating Temperature Max: 105degC; Packaging: Tape and Reel; Width: 8.7mm; Height: 27mm; Diameter: 23mm; Energy Absorption: 344J; (Reverse) Peak Pulse Current: 6500A
footprint D23W8.7H27P2.3_ShortPin
footprint D23W8.7H27P2.3
pins: 1, 2

## 820524611
designator RV?, comment 460Vrms, 615Vdc  (value not drawn)
WE-VD Disk Varistor, THT, D23mm x H27mm, 460Vrms, 615Vdc, 6500A, 360J; Manufacturer Part Number: 820524611; Manufacturer: Wurth Elektronik; Operating Voltage (AC): 460V; Operating Voltage (DC): 615V; Power Dissipation: 1W; (Reverse) Breakdown Voltage: 750V; VDE Approval: Yes; Category: Surge Protection; Match Code: WE-VD; ComponentLink1Description: Website Link; ComponentLink1URL: https://www.we-online.com/redexpert/article/820524611?ad; ComponentLink2Description: Datasheet Link; ComponentLink2URL: https://www.we-online.com/redexpert/spec/820524611?ad; Mount: Through Hole; Operating Temperature Min: -40degC; Operating Temperature Max: 105degC; Packaging: Tape and Reel; Width: 9.1mm; Height: 27mm; Diameter: 23mm; Energy Absorption: 360J; (Reverse) Peak Pulse Current: 6500A
footprint D23W9.1H27P2.6_ShortPin
footprint D23W9.1H27P2.6
pins: 1, 2

## 820525511
designator RV?, comment 550Vrms, 745Vdc  (value not drawn)
WE-VD Disk Varistor, THT, D23mm x H27mm, 550Vrms, 745Vdc, 6500A, 408J; Manufacturer Part Number: 820525511; Manufacturer: Wurth Elektronik; Operating Voltage (AC): 550V; Operating Voltage (DC): 745V; Power Dissipation: 1W; (Reverse) Breakdown Voltage: 910V; VDE Approval: Yes; Category: Surge Protection; Match Code: WE-VD; ComponentLink1Description: Website Link; ComponentLink1URL: https://www.we-online.com/redexpert/article/820525511?ad; ComponentLink2Description: Datasheet Link; ComponentLink2URL: https://www.we-online.com/redexpert/spec/820525511?ad; Mount: Through Hole; Operating Temperature Min: -40degC; Operating Temperature Max: 105degC; Packaging: Tape and Reel; Width: 10.1mm; Height: 27mm; Diameter: 23mm; Energy Absorption: 408J; (Reverse) Peak Pulse Current: 6500A
footprint D23W10.1H27P3.4_ShortPin
footprint D23W10.1H27P3.4
pins: 1, 2

## 820526811
designator RV?, comment 680Vrms, 895Vdc  (value not drawn)
WE-VD Disk Varistor, THT, D23mm x H27mm, 680Vrms, 895Vdc, 6500A, 496J; Manufacturer Part Number: 820526811; Manufacturer: Wurth Elektronik; Operating Voltage (AC): 680V; Operating Voltage (DC): 895V; Power Dissipation: 1W; (Reverse) Breakdown Voltage: 1100V; VDE Approval: Yes; Category: Surge Protection; Match Code: WE-VD; ComponentLink1Description: Website Link; ComponentLink1URL: https://www.we-online.com/redexpert/article/820526811?ad; ComponentLink2Description: Datasheet Link; ComponentLink2URL: https://www.we-online.com/redexpert/spec/820526811?ad; Mount: Through Hole; Operating Temperature Min: -40degC; Operating Temperature Max: 105degC; Packaging: Tape and Reel; Width: 11.2mm; Height: 27mm; Diameter: 23mm; Energy Absorption: 496J; (Reverse) Peak Pulse Current: 6500A
footprint D23W11.2H27P4.3_ShortPin
footprint D23W11.2H27P4.3
pins: 1, 2

## 820527501
designator RV?, comment 75Vrms, 100Vdc  (value not drawn)
WE-VD Disk Varistor, THT, D23mm x H26.5mm, 75Vrms, 100Vdc, 6500A, 64J; Manufacturer Part Number: 820527501; Manufacturer: Wurth Elektronik; Operating Voltage (AC): 75V; Operating Voltage (DC): 100V; Power Dissipation: 1W; (Reverse) Breakdown Voltage: 120V; VDE Approval: Yes; Category: Surge Protection; Match Code: WE-VD; ComponentLink1Description: Website Link; ComponentLink1URL: https://www.we-online.com/redexpert/article/820527501?ad; ComponentLink2Description: Datasheet Link; ComponentLink2URL: https://www.we-online.com/redexpert/spec/820527501?ad; Mount: Through Hole; Operating Temperature Min: -40degC; Operating Temperature Max: 105degC; Packaging: Tape and Reel; Width: 5.1mm; Height: 26.5mm; Diameter: 23mm; Energy Absorption: 64J; (Reverse) Peak Pulse Current: 6500A
footprint D23W5.1H26.5P0.8_ShortPin
footprint D23W5.1H26.5P0.8
pins: 1, 2

## 820541021
designator RV?, comment 1000Vrms, 1465Vdc  (value not drawn)
WE-VD Disk Varistor, THT, D16.5mm x H22.5mm, 1000Vrms, 1465Vdc, 4500A, 348J; Manufacturer Part Number: 820541021; Manufacturer: Wurth Elektronik; Operating Voltage (AC): 1000V; Operating Voltage (DC): 1465V; Power Dissipation: 0.6W; (Reverse) Breakdown Voltage: 1800V; VDE Approval: Yes; Category: Surge Protection; Match Code: WE-VD; ComponentLink1Description: Website Link; ComponentLink1URL: https://www.we-online.com/redexpert/article/820541021?ad; ComponentLink2Description: Datasheet Link; ComponentLink2URL: https://www.we-online.com/redexpert/spec/820541021?ad; Mount: Through Hole; Operating Temperature Min: -40degC; Operating Temperature Max: 105degC; Packaging: Tape and Reel; Width: 12.8mm; Height: 22.5mm; Diameter: 16.5mm; Energy Absorption: 348J; (Reverse) Peak Pulse Current: 4500A
footprint D16.5W12.8H22.5P10.2_ShortPin
footprint D16.5W12.8H22.5P10.2
pins: 1, 2

## 820541311
designator RV?, comment 130Vrms, 170Vdc  (value not drawn)
WE-VD Disk Varistor, THT, D16.5mm x H19.5mm, 130Vrms, 170Vdc, 4500A, 57J; Manufacturer Part Number: 820541311; Manufacturer: Wurth Elektronik; Operating Voltage (AC): 130V; Operating Voltage (DC): 170V; Power Dissipation: 0.6W; (Reverse) Breakdown Voltage: 200V; VDE Approval: Yes; Category: Surge Protection; Match Code: WE-VD; ComponentLink1Description: Website Link; ComponentLink1URL: https://www.we-online.com/redexpert/article/820541311?ad; ComponentLink2Description: Datasheet Link; ComponentLink2URL: https://www.we-online.com/redexpert/spec/820541311?ad; Mount: Through Hole; Operating Temperature Min: -40degC; Operating Temperature Max: 105degC; Packaging: Tape and Reel; Width: 4.8mm; Height: 19.5mm; Diameter: 16.5mm; Energy Absorption: 57J; (Reverse) Peak Pulse Current: 4500A
footprint D16.5W4.8H19.5P0.8_ShortPin
footprint D16.5W4.8H19.5P0.8
pins: 1, 2

## 820541406
designator RV?, comment 14Vrms, 18Vdc  (value not drawn)
WE-VD Disk Varistor, THT, D16.5mm x H19.5mm, 14Vrms, 18Vdc, 1000A, 5.4J; Manufacturer Part Number: 820541406; Manufacturer: Wurth Elektronik; Operating Voltage (AC): 14V; Operating Voltage (DC): 18V; Power Dissipation: 0.1W; (Reverse) Breakdown Voltage: 22V; VDE Approval: Yes; Category: Surge Protection; Match Code: WE-VD; ComponentLink1Description: Website Link; ComponentLink1URL: https://www.we-online.com/redexpert/article/820541406?ad; ComponentLink2Description: Datasheet Link; ComponentLink2URL: https://www.we-online.com/redexpert/spec/820541406?ad; Mount: Through Hole; Operating Temperature Min: -40degC; Operating Temperature Max: 105degC; Packaging: Tape and Reel; Width: 5mm; Height: 19.5mm; Diameter: 16.5mm; Energy Absorption: 5.4J; (Reverse) Peak Pulse Current: 1000A
footprint D16.5W5H19.5P0.8_ShortPin
footprint D16.5W5H19.5P0.8
pins: 1, 2

## 820542501
designator RV?, comment 25Vrms, 31Vdc  (value not drawn)
WE-VD Disk Varistor, THT, D16.5mm x H19.5mm, 25Vrms, 31Vdc, 1000A, 9.4J; Manufacturer Part Number: 820542501; Manufacturer: Wurth Elektronik; Operating Voltage (AC): 25V; Operating Voltage (DC): 31V; Power Dissipation: 0.1W; (Reverse) Breakdown Voltage: 39V; VDE Approval: Yes; Category: Surge Protection; Match Code: WE-VD; ComponentLink1Description: Website Link; ComponentLink1URL: https://www.we-online.com/redexpert/article/820542501?ad; ComponentLink2Description: Datasheet Link; ComponentLink2URL: https://www.we-online.com/redexpert/spec/820542501?ad; Mount: Through Hole; Operating Temperature Min: -40degC; Operating Temperature Max: 105degC; Packaging: Tape and Reel; Width: 5.2mm; Height: 19.5mm; Diameter: 16.5mm; Energy Absorption: 9.4J; (Reverse) Peak Pulse Current: 1000A
footprint D16.5W5.2H19.5P0.8_ShortPin
footprint D16.5W5.2H19.5P0.8
pins: 1, 2

## 820542511
designator RV?, comment 250Vrms, 320Vdc  (value not drawn)
WE-VD Disk Varistor, THT, D16.5mm x H20mm, 250Vrms, 320Vdc, 4500A, 120J; Manufacturer Part Number: 820542511; Manufacturer: Wurth Elektronik; Operating Voltage (AC): 250V; Operating Voltage (DC): 320V; Power Dissipation: 0.6W; (Reverse) Breakdown Voltage: 390V; VDE Approval: Yes; Category: Surge Protection; Match Code: WE-VD; ComponentLink1Description: Website Link; ComponentLink1URL: https://www.we-online.com/redexpert/article/820542511?ad; ComponentLink2Description: Datasheet Link; ComponentLink2URL: https://www.we-online.com/redexpert/spec/820542511?ad; Mount: Through Hole; Operating Temperature Min: -40degC; Operating Temperature Max: 105degC; Packaging: Tape and Reel; Width: 5.9mm; Height: 20mm; Diameter: 16.5mm; Energy Absorption: 120J; (Reverse) Peak Pulse Current: 4500A
footprint D16.5W5.9H20P1.1_ShortPin
footprint D16.5W5.9H20P1.1
pins: 1, 2

## 820542711
designator RV?, comment 275Vrms, 350Vdc  (value not drawn)
WE-VD Disk Varistor, THT, D16.5mm x H20mm, 275Vrms, 350Vdc, 4500A, 132J; Manufacturer Part Number: 820542711; Manufacturer: Wurth Elektronik; Operating Voltage (AC): 275V; Operating Voltage (DC): 350V; Power Dissipation: 0.6W; (Reverse) Breakdown Voltage: 430V; VDE Approval: Yes; Category: Surge Protection; Match Code: WE-VD; ComponentLink1Description: Website Link; ComponentLink1URL: https://www.we-online.com/redexpert/article/820542711?ad; ComponentLink2Description: Datasheet Link; ComponentLink2URL: https://www.we-online.com/redexpert/spec/820542711?ad; Mount: Through Hole; Operating Temperature Min: -40degC; Operating Temperature Max: 105degC; Packaging: Tape and Reel; Width: 6.7mm; Height: 20mm; Diameter: 16.5mm; Energy Absorption: 132J; (Reverse) Peak Pulse Current: 4500A
footprint D16.5W6.7H20P1.3_ShortPin
footprint D16.5W6.7H20P1.3
pins: 1, 2

## 820543001
designator RV?, comment 30Vrms, 38Vdc  (value not drawn)
WE-VD Disk Varistor, THT, D16.5mm x H19.5mm, 30Vrms, 38Vdc, 1000A, 12J; Manufacturer Part Number: 820543001; Manufacturer: Wurth Elektronik; Operating Voltage (AC): 30V; Operating Voltage (DC): 38V; Power Dissipation: 0.1W; (Reverse) Breakdown Voltage: 47V; VDE Approval: Yes; Category: Surge Protection; Match Code: WE-VD; ComponentLink1Description: Website Link; ComponentLink1URL: https://www.we-online.com/redexpert/article/820543001?ad; ComponentLink2Description: Datasheet Link; ComponentLink2URL: https://www.we-online.com/redexpert/spec/820543001?ad; Mount: Through Hole; Operating Temperature Min: -40degC; Operating Temperature Max: 105degC; Packaging: Tape and Reel; Width: 5.6mm; Height: 19.5mm; Diameter: 16.5mm; Energy Absorption: 12J; (Reverse) Peak Pulse Current: 1000A
footprint D16.5W5.6H19.5P0.8_ShortPin
footprint D16.5W5.6H19.5P0.8
pins: 1, 2